# Altium schematic symbol library AN2051.SchLib: 1 symbol
Pins are listed as number, name and electrical type; pins without a type are passive.

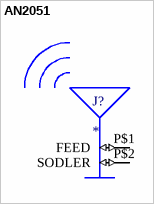
[diagram p0: symbol AN2051]

## AN2051
designator J?
AN2051 Multilayer Chip Antenna; MF: {'manufacturer': u'RainSun'}; Value: *; Package: None; MP: AN2051; Price: None; Availability: Unavailable
footprint AN2051
pins: P$1 FEED (io), P$2 SODLER (io)